# Altium footprint library UNeedle.PcbLib: 1 footprints
Each footprint in its own frame and in the unit in brackets; x right, y up, seen from the top. Pads: shape width x height; smd on the part's side, far side on the other; paste and mask are expansions set on the pad; w line width, h text height; cw(c..) or ccw(c..) is an arc to the next point about the centre after c.
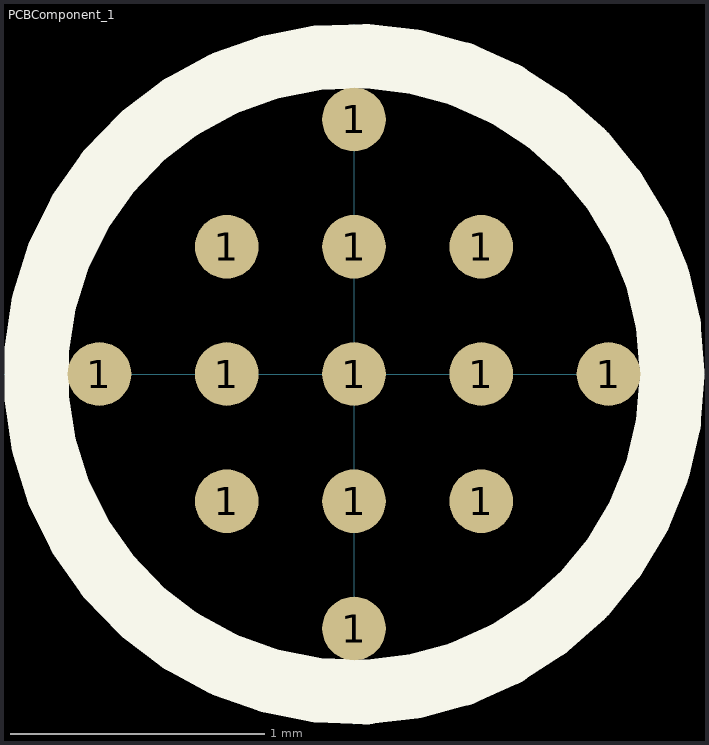
[diagram p0: the footprint, top view; thin cyan lines are the x and y axes]

## PCBComponent_1 [mm]
pads (13):
  round 0.25 smd paste+0 mask+0: 1(-1,0) 1(-0.5,-0.5) 1(-0.5,0) 1(-0.5,0.5) 1(0,-1) 1(0,-0.5) 1(0,0) 1(0,0.5) 1(0,1) 1(0.5,-0.5) 1(0.5,0) 1(0.5,0.5) 1(1,0)
Top Overlay:
  circle w0.254: c0,0 r1.25
Top Solder:
  circle w2.6: c0,0 r0.1